# EAGLE library part 6BM8-P (library Tubes111)
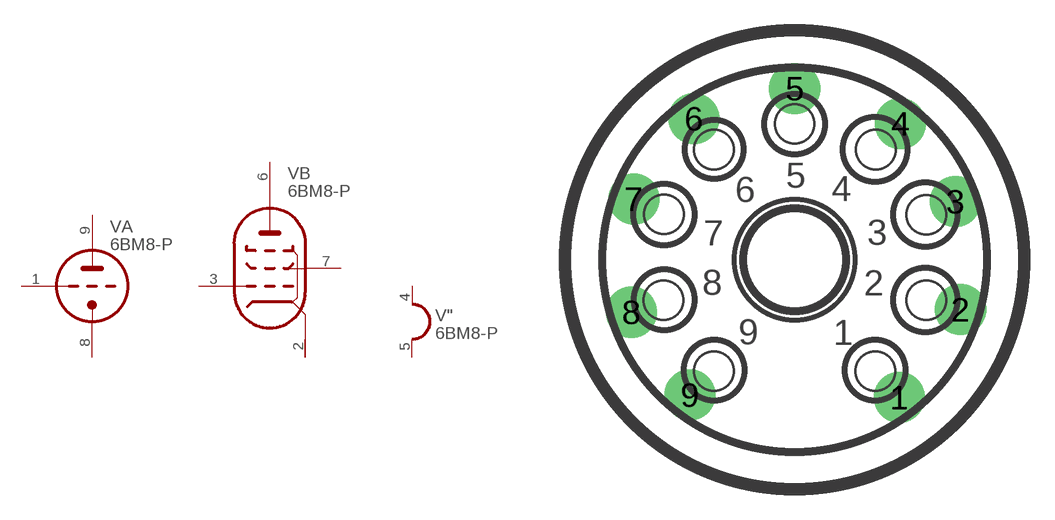
[diagram p52: symbol with the pads of NOVAL; footprint NOVAL]

Designator prefix V; gates A=TRIODE B=PENTODE "=HEATER_1

## 6BM8-P  [NOVAL]
1  A:TG  pas
2  B:PK  pas
3  B:PG  pas
4  ":H1  pas
5  ":H2  pas
6  B:PA  pas
7  B:PSG  pas
8  A:TK  pas
9  A:TA  pas

## Footprint NOVAL (pad centres in mm)
drill 1.422 pad 2.54 round: 1 5.207,-6.858; 2 8.254,-2.484; 3 8.004,2.893; 4 5.258,6.77; 5 0,8.524; 6 -5.004,7.024; 7 -8.004,3.02; 8 -8.127,-2.611; 9 -5.207,-6.731